# Altium footprint library RES0805_2.PcbLib: 1 footprints
Each footprint in its own frame and in the unit in brackets; x right, y up, seen from the top. Pads: shape width x height; smd on the part's side, far side on the other; paste and mask are expansions set on the pad; w line width, h text height; cw(c..) or ccw(c..) is an arc to the next point about the centre after c.
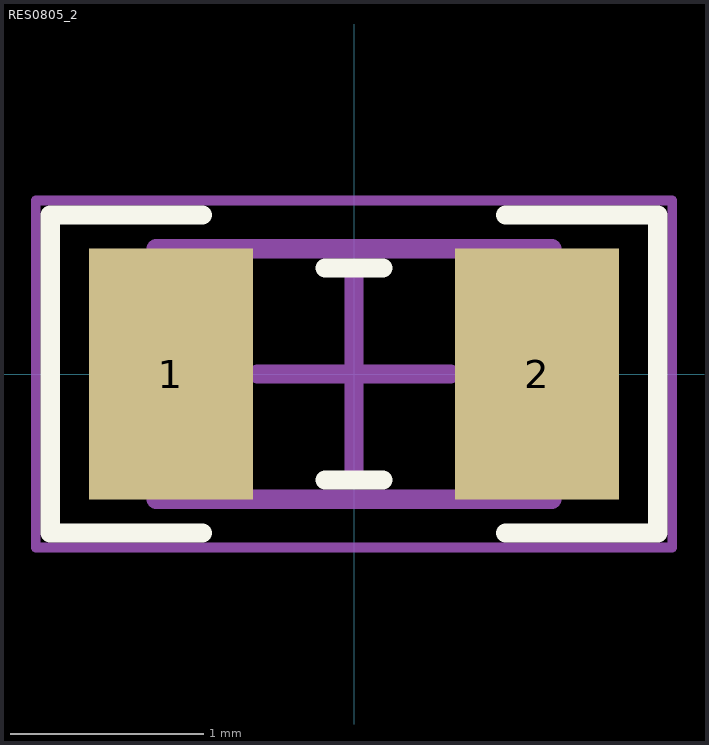
[diagram p0: the footprint, top view; thin cyan lines are the x and y axes]

## RES0805_2 [mm]
pads (2):
  rect 0.85x1.3 smd: 1(-0.95,0) 2(0.95,0)
Top Overlay:
  lines w0.1: -0.788,-0.825 -1.575,-0.825 -1.575,0.825 -0.788,0.825 ; -0.15,-0.55 0.15,-0.55 ; -0.15,0.55 0.15,0.55 ; 0.788,-0.825 1.575,-0.825 1.575,0.825 0.788,0.825
Mechanical 13:
  lines w0.1: -1.025,-0.65 -1.025,0.65 1.025,0.65 1.025,-0.65 -1.025,-0.65
Mechanical 15:
  lines w0.05: -1.65,-0.9 -1.65,0.9 1.65,0.9 1.65,-0.9 -1.65,-0.9
  lines w0.1: -0.5,0 0.5,0 ; 0,-0.5 0,0.5
3D body "RES0805.step": height 0.5, standoff 0, extent -1.025,-0.65 1.025,0.65